# Altium footprint library 电路板.PcbLib: 4 footprints
Each footprint in its own frame and in the unit in brackets; x right, y up, seen from the top. Pads: shape width x height; smd on the part's side, far side on the other; paste and mask are expansions set on the pad; w line width, h text height; cw(c..) or ccw(c..) is an arc to the next point about the centre after c.
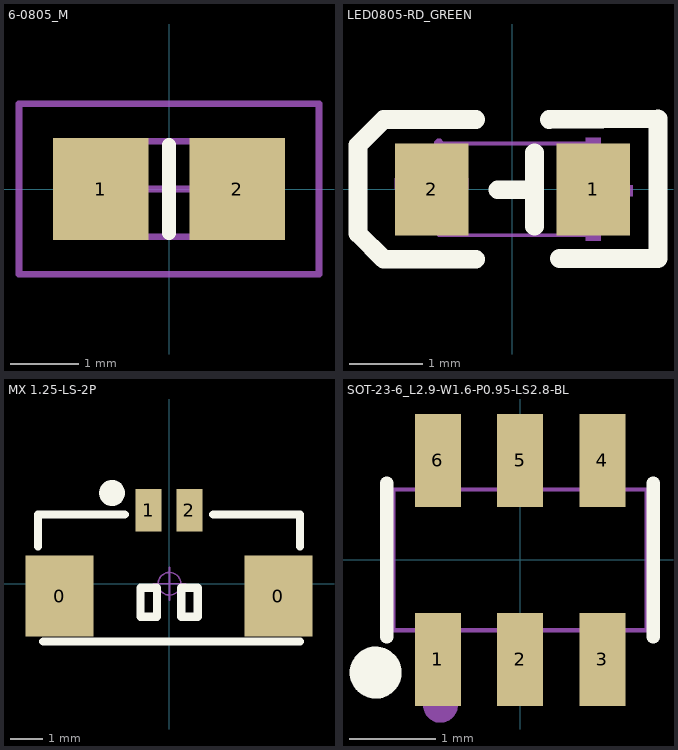
[diagram p0: the footprints below, top view; thin cyan lines are the x and y axes]

## 6-0805_M [mm] "Chip Resistor, Body 2.0x1.2mm, IPC Low Density"
height 0.7
pads (2):
  rect 1.4x1.5 smd: 1(-1,0) 2(1,0)
Top Overlay:
  lines w0.2: 0,-0.65 0,0.65
Mechanical 13:
  lines w0.1: -1.075,-0.7 -1.075,0.7 1.075,0.7 1.075,-0.7 -1.075,-0.7
Mechanical 15:
  lines w0.1: -0.5,0 0.5,0 ; 0,-0.5 0,0.5 ; -2.2,-1.25 -2.2,1.25 2.2,1.25 2.2,-1.25 -2.2,-1.25
3D body: height 0.7, standoff 0, extent -1.075,-0.7 1.075,0.7

## LED0805-RD_GREEN [mm]
height 1.3
pads (2):
  rect 1x1.25 smd: 1(1.1,0) 2(-1.1,0)
Top Overlay:
  lines w0.254: -0.5,-0.95 -1.75,-0.95 ; -0.5,0.95 -1.75,0.95 ; -0.2,-0.005 0.3,-0.005 ; 0.3,-0.5 0.3,0.5 ; 0.5,0.95 1.98,0.96 1.98,-0.94 0.64,-0.94 ; -1.75,-0.95 -2.1,-0.6 -2.1,0.6 -1.75,0.95 ; -1.75,-0.95 -1.75,-0.95 ; -1.75,0.95 -1.75,0.95
Mechanical 6:
  region: -1.6,0 -0.6,0 -0.6,0.15 -1.6,0.15
  region: 0.635,-0.094 1.635,-0.094 1.635,0.056 0.635,0.056
  region: 1,0.7 1.2,0.7 1.2,-0.7 1,-0.7
Mechanical 15:
  region: -0.94,0.625 -0.94,0.65 -0.975,0.685 -1.025,0.685 -1.06,0.65 -1.06,0.625 -1.06,0.6 -1.025,0.565 -0.975,0.565 -0.94,0.6 -0.94,0.625
  region: -0.65,-0.625 -1,-0.625 -1,0.625 -0.65,0.625
  region: 1,-0.625 0.65,-0.625 0.65,0.625 1,0.625
  lines w0.051: -1,-0.625 1,-0.625 1,0.625 -1,0.625 -1,-0.625

## MX 1.25-LS-2P [mm] "长：7.25m，宽：3"
pads (4):
  rect 2.1x2.5 smd: 0(-3.382,-0.381) 0(3.354,-0.381)
  rect 0.8x1.3 smd: 1(-0.639,2.261) 2(0.611,2.261)
Top Overlay:
  circle w0.4: c-1.767,2.794 r0.2
  lines w0.254: -4.045,1.143 -4.045,2.134 -1.378,2.134 ; -3.887,-1.778 4.02,-1.778 ; 1.35,2.134 4.017,2.134 4.017,1.143 ; -0.89,-1.016 -0.382,-1.016 -0.382,-0.127 -0.89,-0.127 -0.89,-1.016 ; 0.36,-1.016 0.36,-0.127 0.868,-0.127 0.868,-1.016 0.36,-1.016
Mechanical 15:
  circle w0.05: c0,0 r0.35
  lines w0.05: -0.5,0 0.5,0 ; 0,-0.5 0,0.5
3D body "MOLEX1.25-LS-2P.STEP": height 4.7, standoff 0, extent -3.825,-1.6 3.825,2.5

## SOT-23-6_L2.9-W1.6-P0.95-LS2.8-BL [mm]
height 1.3
pads (6):
  rect 0.532x1.072 smd: 1(-0.95,-1.149) 2(0,-1.149) 3(0.95,-1.149) 4(0.95,1.149) 5(0,1.149) 6(-0.95,1.149)
Top Overlay:
  circle w0.3: c-1.668,-1.301 r0.15
  lines w0.152: -1.539,-0.889 -1.539,0.889 ; 1.539,-0.889 1.539,0.889
Mechanical 6:
  circle w0.2: c-0.92,-1.68 r0.1
Mechanical 15:
  region: -1.165,0.935 -0.735,0.935 -0.735,0.803 -1.165,0.803
  region: -1.165,0.925 -0.735,0.925 -0.735,1.4 -1.165,1.4
  region: -0.215,0.935 0.215,0.935 0.215,0.803 -0.215,0.803
  region: -0.215,0.925 0.215,0.925 0.215,1.4 -0.215,1.4
  region: 0.735,0.935 1.165,0.935 1.165,0.803 0.735,0.803
  region: 0.735,0.925 1.165,0.925 1.165,1.4 0.735,1.4
  region: 0.735,-0.803 1.165,-0.803 1.165,-0.935 0.735,-0.935
  region: 0.735,-0.925 1.165,-0.925 1.165,-1.4 0.735,-1.4
  region: -0.215,-0.803 0.215,-0.803 0.215,-0.935 -0.215,-0.935
  region: -0.215,-0.925 0.215,-0.925 0.215,-1.4 -0.215,-1.4
  region: -1.165,-0.803 -0.735,-0.803 -0.735,-0.935 -1.165,-0.935
  region: -1.165,-0.925 -0.735,-0.925 -0.735,-1.4 -1.165,-1.4
  region: -1.403,-1.4 -1.403,-1.375 -1.438,-1.34 -1.488,-1.34 -1.523,-1.375 -1.523,-1.4 -1.523,-1.425 -1.488,-1.46 -1.438,-1.46 -1.403,-1.425 -1.403,-1.4
  lines w0.051: -1.463,-0.813 -1.463,0.813 1.463,0.813 1.463,-0.813 -1.463,-0.813